# Altium schematic symbol library DS-C14FX10B-P06D01A.Schlib: 1 symbol
Pins are listed as number, name and electrical type; pins without a type are passive.

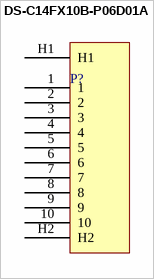
[diagram p0: symbol DS-C14FX10B-P06D01A]

## DS-C14FX10B-P06D01A
designator P?
10 Pin DGDTE Battery Connector
pins: 1, 2, 3, 4, 5, 6, 7, 8, 9, 10, H1, H2